# Altium footprint library Terminal Blocks.PcbLib: 1 footprints
Each footprint in its own frame and in the unit in brackets; x right, y up, seen from the top. Pads: shape width x height; smd on the part's side, far side on the other; paste and mask are expansions set on the pad; w line width, h text height; cw(c..) or ccw(c..) is an arc to the next point about the centre after c.
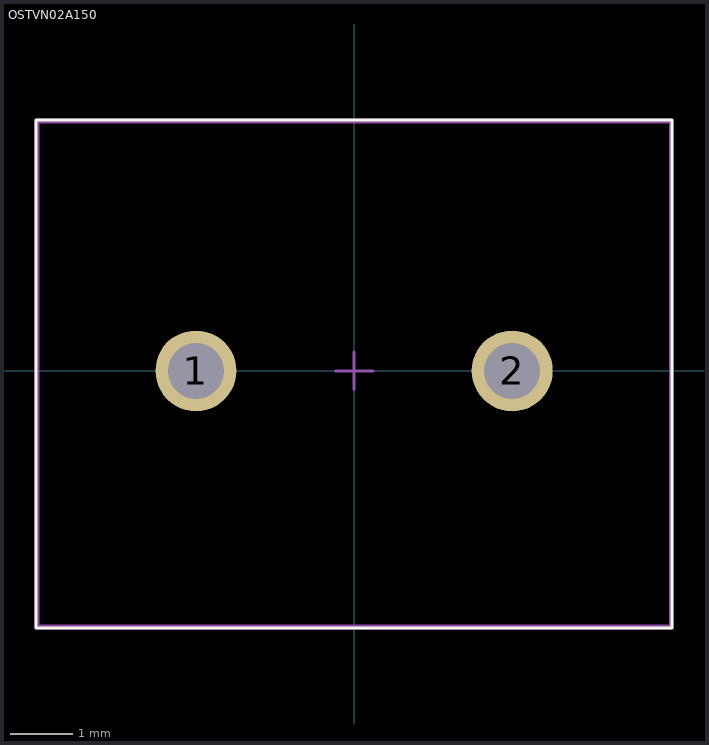
[diagram p0: the footprint, top view; thin cyan lines are the x and y axes]

## OSTVN02A150 [mm] "5.08/2 PIN"
pads (2):
  round 1.3 hole 0.9 mask+0.05: 1(-2.54,0) 2(2.54,0)
Top Overlay:
  lines w0.05: -5.111,-4.13 5.11,-4.13 5.11,4.03 -5.09,4.03 -5.111,4.03 -5.111,-4.13
Top 3D Body:
  lines w0.05: -5.08,-4.1 -5.08,4 5.08,4 5.08,-4.1 -5.08,-4.1
Top Component Center:
  lines w0.05: -0.3,0 0.3,0 ; 0,-0.3 0,0.3 ; -5.11,-4.13 -5.11,4.03 5.11,4.03 5.11,-4.13 -5.11,-4.13
Top Designator:
  lines w0.05: -5.11,-4.13 -5.11,4.03 5.11,4.03 5.11,-4.13 -5.11,-4.13
  text ".Designator" at -0.999,1.833 h0.5
3D body "DG127-THR-5.08-02P-13-80AH.STEP": height 10.9, standoff -3.2, extent -5.08,-4.1 5.08,4